# EAGLE library part W6100-QFN (library WIZnet)
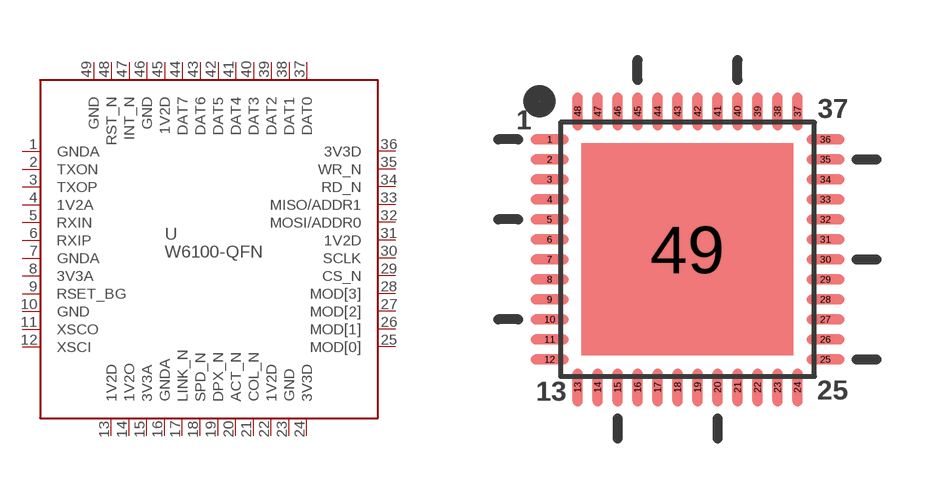
[diagram p16: symbol with the pads of W6100-QFN; footprint W6100-QFN]

Designator prefix U

## W6100-QFN  [W6100-QFN]
1  GNDA
2  TXON
3  TXOP
4  1V2A
5  RXIN
6  RXIP
7  GNDA
8  3V3A
9  RSET_BG
10  GND
11  XSCO
12  XSCI
13  1V2D
14  1V2O
15  3V3A
16  GNDA
17  LINK_N
18  SPD_N
19  DPX_N
20  ACT_N
21  COL_N
22  1V2D
23  GND
24  3V3D
25  MOD[0]
26  MOD[1]
27  MOD[2]
28  MOD[3]
29  CS_N
30  SCLK
31  1V2D
32  MOSI/ADDR0
33  MISO/ADDR1
34  RD_N
35  WR_N
36  3V3D
37  DAT0
38  DAT1
39  DAT2
40  DAT3
41  DAT4
42  DAT5
43  DAT6
44  DAT7
45  1V2D
46  GND
47  INT_N
48  RST_N
49  GND

## Footprint W6100-QFN (pad centres in mm)
smd 0.95 x 0.25: 1 -3.45,2.75; 2 -3.45,2.25; 3 -3.45,1.75; 4 -3.45,1.25; 5 -3.45,0.75; 6 -3.45,0.25; 7 -3.45,-0.25; 8 -3.45,-0.75; 9 -3.45,-1.25; 10 -3.45,-1.75; 11 -3.45,-2.25; 12 -3.45,-2.75; 25 3.45,-2.75; 26 3.45,-2.25; 27 3.45,-1.75; 28 3.45,-1.25; 29 3.45,-0.75; 30 3.45,-0.25; 31 3.45,0.25; 32 3.45,0.75; 33 3.45,1.25; 34 3.45,1.75; 35 3.45,2.25; 36 3.45,2.75
smd 0.25 x 0.95: 13 -2.75,-3.45; 14 -2.25,-3.45; 15 -1.75,-3.45; 16 -1.25,-3.45; 17 -0.75,-3.45; 18 -0.25,-3.45; 19 0.25,-3.45; 20 0.75,-3.45; 21 1.25,-3.45; 22 1.75,-3.45; 23 2.25,-3.45; 24 2.75,-3.45; 37 2.75,3.45; 38 2.25,3.45; 39 1.75,3.45; 40 1.25,3.45; 41 0.75,3.45; 42 0.25,3.45; 43 -0.25,3.45; 44 -0.75,3.45; 45 -1.25,3.45; 46 -1.75,3.45; 47 -2.25,3.45; 48 -2.75,3.45
smd 5.3 x 5.3: 49 0,0